# EAGLE library part 1PEEK08_S (library con-odu_med)
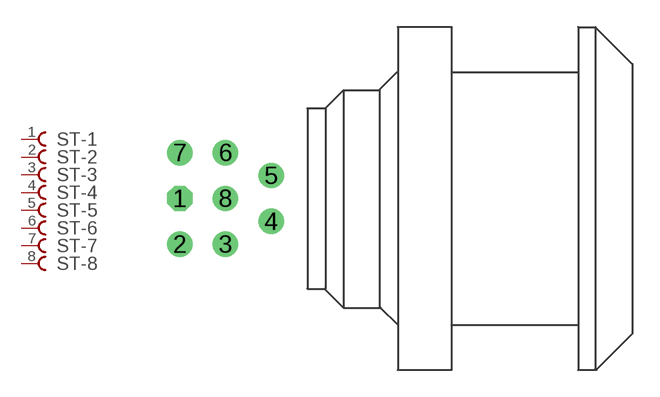
[diagram p9: symbol with the pads of 1PEEK08_S; footprint 1PEEK08_S]

Designator prefix ST; gates -1=KONTAKT -2=KONTAKT -3=KONTAKT -4=KONTAKT -5=KONTAKT -6=KONTAKT -7=KONTAKT -8=KONTAKT

## 1PEEK08_S  [1PEEK08_S]
1  -1:P$1  pas
2  -2:P$1  pas
3  -3:P$1  pas
4  -4:P$1  pas
5  -5:P$1  pas
6  -6:P$1  pas
7  -7:P$1  pas
8  -8:P$1  pas

## Footprint 1PEEK08_S (pad centres in mm)
drill 0.9 octagon: 1 -5.08,0
drill 0.9: 2 -5.08,-2.54; 3 -2.54,-2.54; 4 0,-1.27; 5 0,1.27; 6 -2.54,2.54; 7 -5.08,2.54; 8 -2.54,0